# EAGLE library part MULTICOPTER_8RX (library extension_board)
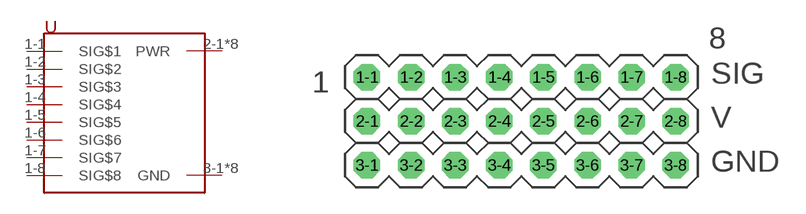
[diagram p3: symbol with the pads of MULTICOPTER_MA08-3; footprint MULTICOPTER_MA08-3]

Designator prefix -

## MULTICOPTER_8RX  [MULTICOPTER_MA08-3]
1-1  SIG$1
1-2  SIG$2
1-3  SIG$3
1-4  SIG$4
1-5  SIG$5
1-6  SIG$6
1-7  SIG$7
1-8  SIG$8
2-1  PWR  pwr
2-2  PWR  pwr
2-3  PWR  pwr
2-4  PWR  pwr
2-5  PWR  pwr
2-6  PWR  pwr
2-7  PWR  pwr
2-8  PWR  pwr
3-1  GND  pwr
3-2  GND  pwr
3-3  GND  pwr
3-4  GND  pwr
3-5  GND  pwr
3-6  GND  pwr
3-7  GND  pwr
3-8  GND  pwr

## Footprint MULTICOPTER_MA08-3 (pad centres in mm)
PIN HEADER
drill 1.016 octagon: 1-1 -8.89,5.08; 1-2 -6.35,5.08; 1-3 -3.81,5.08; 1-4 -1.27,5.08; 1-5 1.27,5.08; 1-6 3.81,5.08; 1-7 6.35,5.08; 1-8 8.89,5.08; 2-1 -8.89,2.54; 2-2 -6.35,2.54; 2-3 -3.81,2.54; 2-4 -1.27,2.54; 2-5 1.27,2.54; 2-6 3.81,2.54; 2-7 6.35,2.54; 2-8 8.89,2.54; 3-1 -8.89,0; 3-2 -6.35,0; 3-3 -3.81,0; 3-4 -1.27,0; 3-5 1.27,0; 3-6 3.81,0; 3-7 6.35,0; 3-8 8.89,0